# Altium schematic symbol library Crystal.SchLib: 1 symbol
Pins are listed as number, name and electrical type; pins without a type are passive.

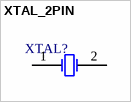
[diagram p0: symbol XTAL_2PIN]

## XTAL_2PIN
designator XTAL?  (value not drawn)
pins: 1 OSC1, 2 OSC2